# EAGLE library part OSTTE120104 (library OSTTE120104)
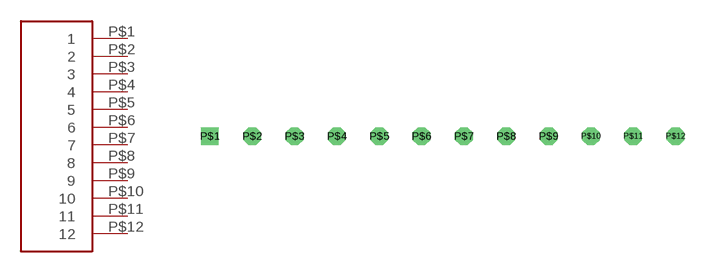
[diagram p0: symbol with the pads of OSTTE120104; footprint OSTTE120104]

Designator prefix J

## OSTTE120104  [OSTTE120104]
P$1  1
P$2  2
P$3  3
P$4  4
P$5  5
P$6  6
P$7  7
P$8  8
P$9  9
P$10  10
P$11  11
P$12  12

## Footprint OSTTE120104 (pad centres in mm)
drill 0.95 square: P$1 0,0
drill 0.95 octagon: P$2 3.5,0; P$3 7,0; P$4 10.5,0; P$5 14,0; P$6 17.5,0; P$7 21,0; P$8 24.5,0; P$9 28,0; P$10 31.5,0; P$11 35,0; P$12 38.5,0